# EAGLE library part MAX3051 (library balto)
MAX3051 https://datasheets.maximintegrated.com/en/ds/MAX3051.pdf
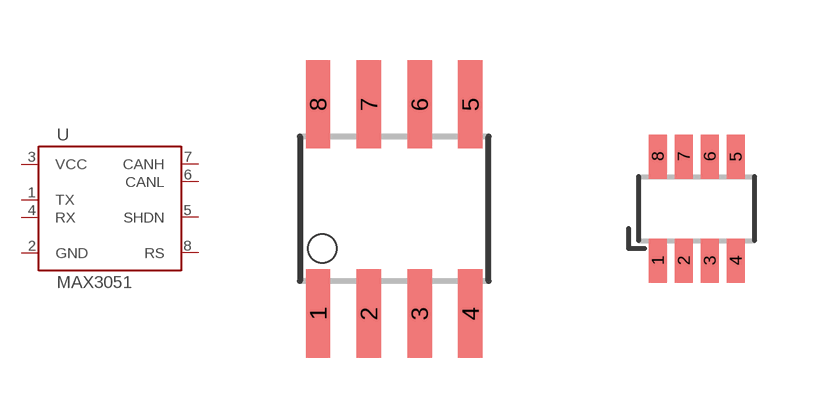
[diagram p12: symbol with the pads of SO08; footprints SO08, SOT23-8-TI]

Designator prefix U

## MAX3051ESA  [SO08]
1  TX
2  GND
3  VCC
4  RX
5  SHDN
6  CANL
7  CANH
8  RS

## MAX3051EKA  [SOT23-8-TI]
Pads as for SO08

## Footprint SO08 (pad centres in mm)
Small Outline Package
smd 0.61 x 2.21: 1 -1.905,-2.616; 2 -0.635,-2.616; 3 0.635,-2.616; 4 1.905,-2.616; 5 1.905,2.616; 6 0.635,2.616; 7 -0.635,2.616; 8 -1.905,2.616

## Footprint SOT23-8-TI (pad centres in mm)
SOT23 (8) https://www.ti.com/lit/ds/symlink/tcan337.pdf
smd 0.45 x 1.1: 1 -0.975,-1.3; 2 -0.325,-1.3; 3 0.325,-1.3; 4 0.975,-1.3; 5 0.975,1.3; 6 0.325,1.3; 7 -0.325,1.3; 8 -0.975,1.3